# Altium schematic symbol library RUssery.SchLib: 33 symbols
Pins are listed as number, name and electrical type; pins without a type are passive.

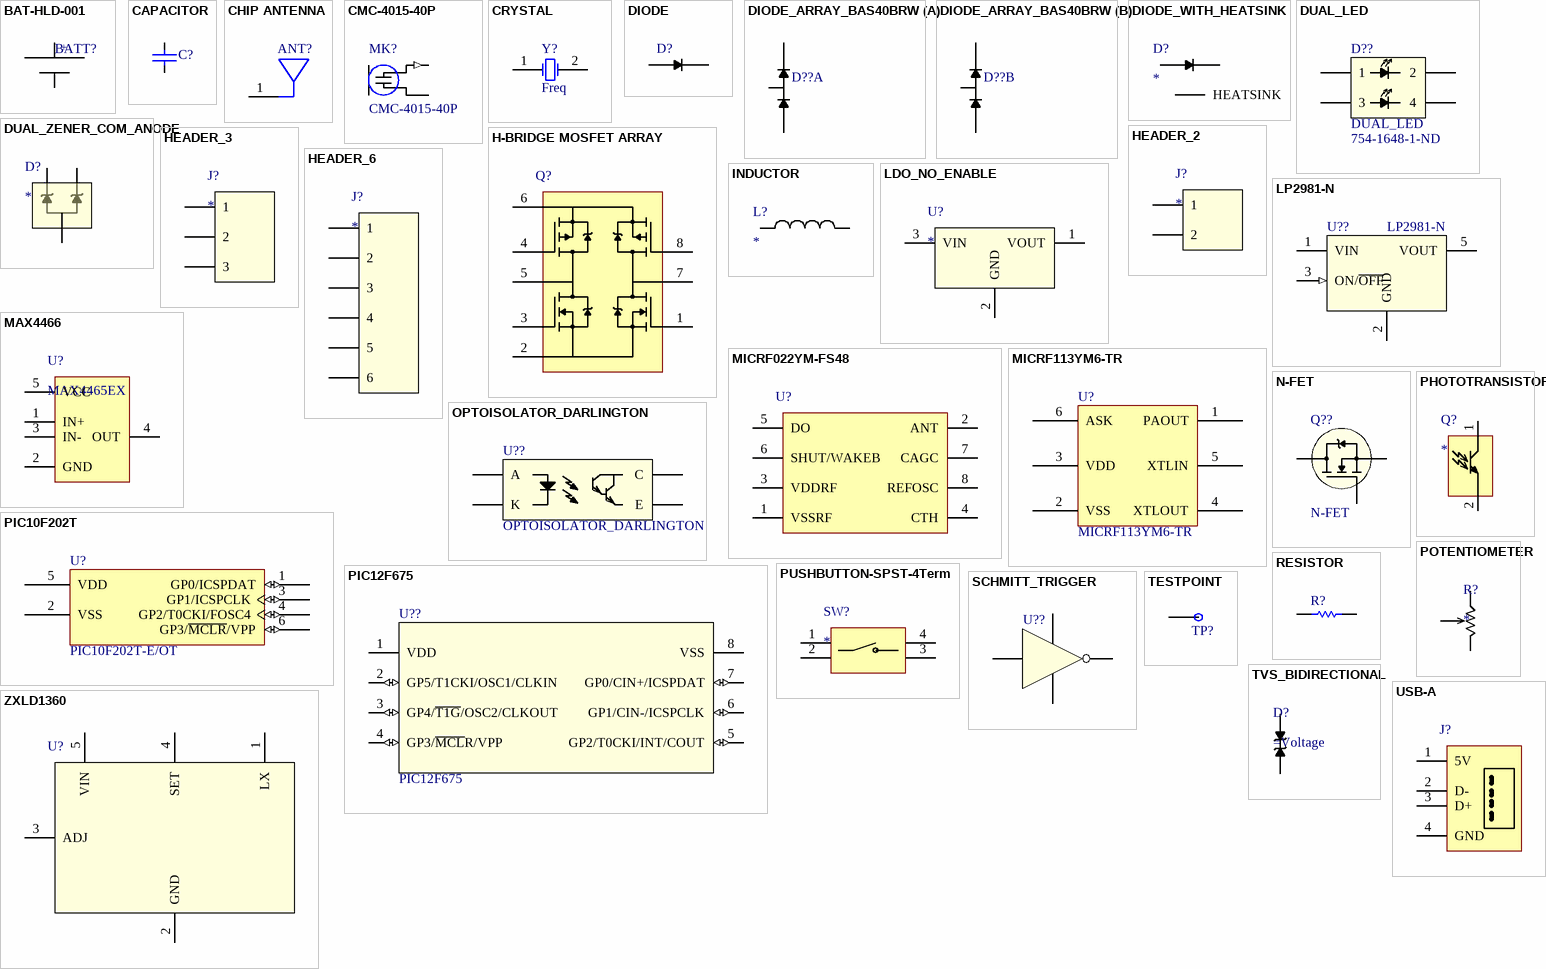
[diagram p0: symbols BAT-HLD-001 to ZXLD1360]

## BAT-HLD-001
designator BATT?
CR2032 Phosphor Bronze / Nickel Plated 20 mm Cell Size Battery Holder
footprint BAT-HLD-001_BAT-HLD-001(Primary)
pins: NEG, POS1, POS2
text: +

## CAPACITOR
designator C?
Capacitor
pins: 1, 2

## CHIP ANTENNA
designator ANT?
Two terminal chip antenna
footprint ANT-2.4-CHP (SM Antenna, 2-Lead, Body 6.5x2.2x1.0mm)
pins: 1 FEED, 2 NC

## CMC-4015-40P
designator MK?
Value: *
footprint MIC_CMC-4015-40P_CMC-4015-40P(Primary)
pins: M GND (power), P OUT (out)

## CRYSTAL
designator Y?  Frequency: Freq
ComponentLink1URL: http://www.abracon.com/; ComponentLink2Description: Datasheet; ComponentLink2URL: http://www.abracon.com/Resonators/ABLS2.pdf; ComponentLink1Description: Manufacturer URL
footprint ABRA-ABLS2-2_V (SMD, 2-Leads, Body 11.4x4.7mm, Height 3.3mm)
pins: 1 X1, 2 X2

## DIODE
designator D?  (value not drawn)
pins: 1 A (power), 2 K (power)

## DIODE_ARRAY_BAS40BRW
designator D??  (value not drawn)
Supplier 1: Digi-Key; Supplier Part Number 1: BAS40BRW-FDIDKR-ND
footprint SOT65P210X110-6N (SOT23, 6-Leads, Body 2.00x2.10mm, Pitch 0.65mm, IPC Medium Density)
part A pins: 1 A1 (power), 5 C1 (power), 6 AC1 (power)
part B pins: 2 A2 (power), 3 AC2 (power), 4 C2 (power)

## DIODE_WITH_HEATSINK
designator D?
pins: 1 K (power), 2 A (power), 3 HEATSINK

## DUAL_LED
designator D??  Supplier Part Number 1: 754-1648-1-ND
Supplier 1: Digi-Key
footprint KINGBRIGHT_DUAL_SMT_LED (3.0 x 2.5 x 1.4mm (LxWxH) DUAL SMT LED)
pins: 1 (power), 2 (power), 3 (power), 4 (power)

## DUAL_ZENER_COM_ANODE
designator D?
pins: 1 C1 (power), 2 C2 (power), 3 CA (power)

## H-BRIDGE MOSFET ARRAY
designator Q?, comment ZXMHC6A07T8TA  (value not drawn)
Mosfet Array 2 N and 2 P-Channel (H-Bridge) 60V 1.6A, 1.3A 1.3W Surface Mount SM8
footprint SOT-223-8
pins: 1 G3, 2 S2S3, 3 G2, 4 G1, 5 D1D2, 6 S1S4, 7 D3D4, 8 G4

## HEADER_2
designator J?
pins: 1 "No Connect", 2 "No Connect"

## HEADER_3
designator J?
pins: 1 "No Connect", 2 "No Connect", 3 "No Connect"

## HEADER_6
designator J?
pins: 1 "No Connect", 2 "No Connect", 3 "No Connect", 4 "No Connect", 5 "No Connect", 6 "No Connect"

## INDUCTOR
designator L?
Inductance: *
pins: 1, 2

## LDO_NO_ENABLE
designator U?
pins: 1 VOUT (power) "No Connect", 2 GND (power), 3 VIN (power)

## LP2981-N
designator U??
5.0V 100mA LDO with shutdown
pins: 1 VIN (power), 2 GND (power), 3 ON/~{OFF} (in), 4 N/C hidden "No Connect", 5 VOUT (power) "No Connect"

## MAX4466
designator U?, comment MAX4465EX
Amplifier IC 1-Channel (Mono) Class AB SC-70-5
footprint SOT95P245X110-5N
pins: 1 IN+, 2 GND, 3 IN-, 4 OUT, 5 VCC

## MICRF022YM-FS48
designator U?  (value not drawn)
- RF Receiver ASK, OOK 300MHz ~ 440MHz -97dBm 10 kbps PCB, Surface Mount 8-SOIC
footprint SOIC127P600X175-8N
pins: 1 VSSRF, 2 ANT, 3 VDDRF, 4 CTH, 5 DO, 6 SHUT/WAKEB, 7 CAGC, 8 REFOSC

## MICRF113YM6-TR
designator U?
RF Transmitter ASK 300MHz ~ 450MHz 10dBm 10 kbps PCB, Surface Mount Antenna SOT-23-6
footprint SOT-23-OT6_N (SOT23, 6-Leads, Body 2.9x1.7mm, Pitch 0.95mm, Lead Span 2.8mm, IPC Medium Density)
pins: 1 PAOUT, 2 VSS, 3 VDD, 4 XTLOUT, 5 XTLIN, 6 ASK

## N-FET
designator Q??
Supplier 1: Digi-Key; Supplier Part Number 1: NTD5865NLT4GOSDKR-ND
footprint DPAK228P970X238-3N (D-PAK, 3-Pads, Body 6.20x6.72mm (max), IPC Medium Density)
pins: 1 G, 3 S, 4 D

## OPTOISOLATOR_DARLINGTON
designator U??
Supplier 1: Digi-Key; Supplier Part Number 1: 160-1335-1-ND
pins: 1 A "No Connect", 2 K "No Connect", 3 E "No Connect", 4 C "No Connect"

## PHOTOTRANSISTOR
designator Q?
footprint LED_ALS-PT19 (LED / Phototransistor Footprint)
pins: 1 C, 2 E

## PIC10F202T
designator U?, comment PIC10F202T-E/OT
8-bit Flash Microcontroller, 512 (x12-Bit words) Program Memory, 24 Bytes Data Memory, 6-Pin SOT-23
footprint SOT-23-OT6_N (SOT23, 6-Leads, Body 2.9x1.6mm, Pitch 0.95mm, Lead Span 2.7mm, IPC Medium Density)
footprint SOT-23-OT6_L (SOT23, 6-Leads, Body 2.9x1.6mm, Pitch 0.95mm, Lead Span 2.7mm, IPC High Density)
footprint SOT-23-OT6_M (SOT23, 6-Leads, Body 2.9x1.6mm, Pitch 0.95mm, Lead Span 2.7mm, IPC Low Density)
pins: 1 GP0/ICSPDAT (io), 2 VSS (power), 3 GP1/ICSPCLK (io), 4 GP2/T0CKI/FOSC4 (io), 5 VDD (power), 6 GP3/~{MCLR}/VPP (io)

## PIC12F675
designator U??
PIC PIC® 12F Microcontroller IC 8-Bit 20MHz 1.75KB (1K x 14) FLASH 8-SOIC
footprint SOIC127P600X175-8N
pins: 1 VDD (power), 2 GP5/T1CKI/OSC1/CLKIN (io), 3 GP4/~{T1G}/OSC2/CLKOUT (io), 4 GP3/~{MCL}R/VPP (io), 5 GP2/T0CKI/INT/COUT (io), 6 GP1/CIN-/ICSPCLK (io), 7 GP0/CIN+/ICSPDAT (io), 8 VSS (power)

## POTENTIOMETER
designator R?
pins: 6 VCC (power), 7 VCC (power), 8 (power)

## PUSHBUTTON-SPST-4Term
designator SW?
SPST pushbutton - four terminal
footprint SWITCH_TACTILE_6MM (Switch, Pushbutton, Tactile, 6mm, Surface Mount)
pins: 1, 2, 3, 4

## RESISTOR
designator R?
Resistor
pins: 1, 2

## SCHMITT_TRIGGER
designator U??  (value not drawn)
Supplier 1: Digi-Key; Supplier Part Number 1: TC4S584F(T5LFT)DKR-ND
pins: 1 NC hidden "No Connect", 2 A "No Connect", 3 GND (power), 4 Y "No Connect", 5 VCC (power)

## TESTPOINT
designator TP?  (no BOM)
Test Point; Part Number: TestPoint SMT 40mil
footprint PAD_40MIL
pins: 1

## TVS_BIDIRECTIONAL
designator D?
pins: 1 (power), 2 (power)

## USB-A
designator J?
footprint USB_VERT_PLUG (USB TYPE-A PLUG, VERTICAL MOUNT)
pins: 1 5V, 2 D-, 3 D+, 4 GND

## ZXLD1360
designator U?  (value not drawn)
ZXLD1360
footprint SOT95P245X110-5N
pins: 1 LX (power), 2 GND (power), 3 ADJ (power), 4 SET (power), 5 VIN (power)